# EAGLE library part TPS61235PRWLR (library TPS61235PRWLR)
TPS6123x 8-A Valley Current Synchronous Boost Converters with Constant Current Output Feature 9-VQFN-HR -40 to 85
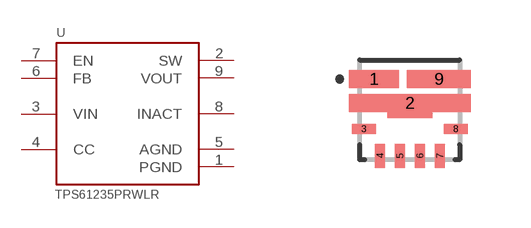
[diagram p0: symbol with the pads of CONV_TPS61235PRWLR; footprint CONV_TPS61235PRWLR]

Designator prefix U

## TPS61235PRWLR (Description: 8-A Valley Current Synchronous Boost Converters with Constant Current Output Feature 9-VQFN-HR -40 to 85; Digi-Key_Part_Number: 296-47376-1-ND; MF: Texas Instruments; MP: TPS61235PRWLR; Package: VQFN-HR-9 Texas Instruments; Purchase-URL: https://pricing.snapeda.com/search/part/TPS61235PRWLR/?ref=eda)  [CONV_TPS61235PRWLR]
1  PGND  pwr
2  SW  pwr
3  VIN  in
4  CC  in
5  AGND  pwr
6  FB  in
7  EN  in
8  INACT  out
9  VOUT  pwr

## Footprint CONV_TPS61235PRWLR (pad centres in mm)
smd 1.24 x 0.44: 1 -0.9,0.77
smd 3.04 x 0.44: 2 0,0.17
smd 0.6 x 0.25: 3 -1.15,-0.475; 8 1.15,-0.475
smd 0.25 x 0.6: 4 -0.75,-1.15; 5 -0.25,-1.15; 6 0.25,-1.15; 7 0.75,-1.15
smd 1.59 x 0.44: 9 0.725,0.77